# EAGLE library part DS1338U-33+T&R (library RTC)
IC RTC CLK/CALENDAR I2C 8-USOP Manufacturer's datasheet <https://datasheets.maximintegrated.com/en/ds/DS1338-DS1338Z.pdf>
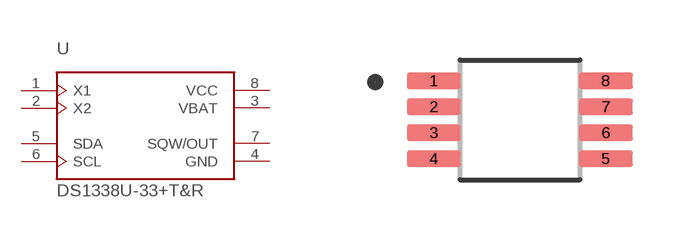
[diagram p3: symbol with the pads of DS1338U-33+T&R; footprint DS1338U-33+T&R]

Designator prefix U

## DS1338U-33+T&R (CREATED_BY: PCBLayout.com; DIGIKEY_PN: DS1338U-33+T&RCT-ND; MANUFACTURER: Maxim Integrated; MPN: DS1338U-33+T&R; PACKAGE: 8-USOP)  [DS1338U-33+T&R]
1  X1
2  X2
3  VBAT  pwr
4  GND  pwr
5  SDA
6  SCL
7  SQW/OUT  out
8  VCC  pwr

## Footprint DS1338U-33+T&R (pad centres in mm)
smd 1.35 x 0.4: 1 -2.15,0.975; 2 -2.15,0.325; 3 -2.15,-0.325; 4 -2.15,-0.975; 5 2.15,-0.975; 6 2.15,-0.325; 7 2.15,0.325; 8 2.15,0.975